# Altium schematic symbol library XT4052.SchLib: 1 symbol
Pins are listed as number, name and electrical type; pins without a type are passive.

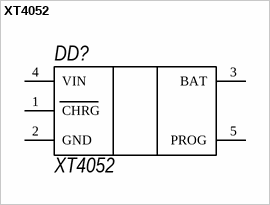
[diagram p0: symbol XT4052]

## XT4052
designator DD?
pins: 1 CHRG, 2 GND, 3 BAT, 4 VIN, 5 PROG